# Altium integrated library WCAP-ASNP_rev15a.intlib: 55 symbols (part 2 of 2)
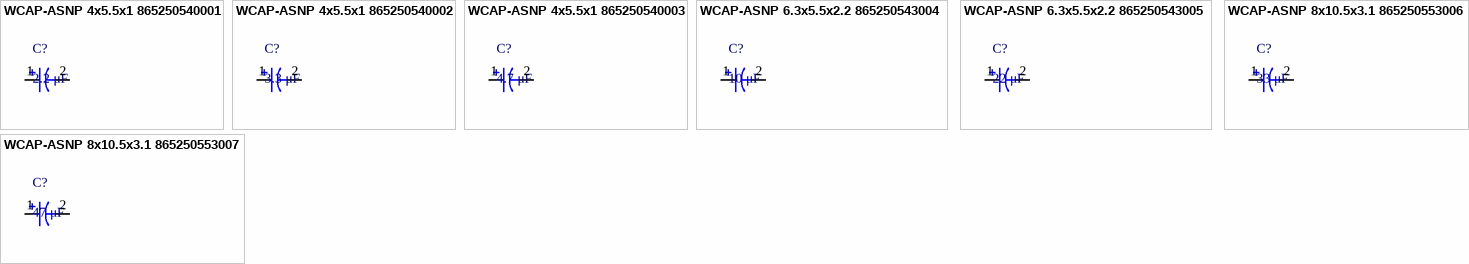
[diagram p6: symbols WCAP-ASNP 4x5.5x1 865250540001 to WCAP-ASNP 8x10.5x3.1 865250553007]

## WCAP-ASNP 4x5.5x1 865250540003
designator C?, comment 4.7 μF
WCAP-ASNP Aluminum Electrolytic Capacitors , 4,7 μF; + / - 20%; 35 V , 4 x 5,5; Manufacturer: Wurth Elektronik; partNo: 865250540003; E-mail: libraries@we-online.com; Characteristics: Aluminum Electrolytic Capacitor;Recommended soldering: Reflow;Operating temperature: –40 °C to +85 °C;Non-polarized product series with +85 °C max. temperature;Load life: 2000 h @ +85 °C; ComponentLink1Description: Manufacturer; ComponentLink1URL: http://www.we-online.com; ComponentLink2Description: Datasheet; ComponentLink2URL: http://katalog.we-online.de/pbs/datasheet/865250540003.pdf; Created by: Karrer Zheng; Created Date: 5/13/2015; Capacitance: 4.7 μF; Application: Applied to signal loop with occasional reverse voltage, coupling signal and filtering in circuit. It can be used for signal processing  on TV, audio circuits, digital TV, digital camera, satellite receiver and etc.
footprint WCAP-ASNP 4x5.5x1
pins: 1, 2

## WCAP-ASNP 6.3x5.5x2.2 865250543004
designator C?, comment 10 μF
WCAP-ASNP Aluminum Electrolytic Capacitors , 10 μF; + / - 20%; 35 V , 6,3 x 5,5; Manufacturer: Wurth Elektronik; partNo: 865250543004; E-mail: libraries@we-online.com; Characteristics: Aluminum Electrolytic Capacitor;Recommended soldering: Reflow;Operating temperature: –40 °C to +85 °C;Non-polarized product series with +85 °C max. temperature;Load life: 2000 h @ +85 °C; ComponentLink1Description: Manufacturer; ComponentLink1URL: http://www.we-online.com; ComponentLink2Description: Datasheet; ComponentLink2URL: http://katalog.we-online.de/pbs/datasheet/865250543004.pdf; Created by: Karrer Zheng; Created Date: 5/13/2015; Capacitance: 10 μF; Application: Applied to signal loop with occasional reverse voltage, coupling signal and filtering in circuit. It can be used for signal processing  on TV, audio circuits, digital TV, digital camera, satellite receiver and etc.
footprint WCAP-ASNP 6.3x5.5x2.2
pins: 1, 2

## WCAP-ASNP 6.3x5.5x2.2 865250543005
designator C?, comment 22 μF
WCAP-ASNP Aluminum Electrolytic Capacitors , 22 μF; + / - 20%; 35 V , 6,3 x 5,5; Manufacturer: Wurth Elektronik; partNo: 865250543005; E-mail: libraries@we-online.com; Characteristics: Aluminum Electrolytic Capacitor;Recommended soldering: Reflow;Operating temperature: –40 °C to +85 °C;Non-polarized product series with +85 °C max. temperature;Load life: 2000 h @ +85 °C; ComponentLink1Description: Manufacturer; ComponentLink1URL: http://www.we-online.com; ComponentLink2Description: Datasheet; ComponentLink2URL: http://katalog.we-online.de/pbs/datasheet/865250543005.pdf; Created by: Karrer Zheng; Created Date: 5/13/2015; Capacitance: 22 μF; Application: Applied to signal loop with occasional reverse voltage, coupling signal and filtering in circuit. It can be used for signal processing  on TV, audio circuits, digital TV, digital camera, satellite receiver and etc.
footprint WCAP-ASNP 6.3x5.5x2.2
pins: 1, 2

## WCAP-ASNP 8x10.5x3.1 865250553006
designator C?, comment 33 μF
WCAP-ASNP Aluminum Electrolytic Capacitors , 33 μF; + / - 20%; 35 V , 8 x 10,5; Manufacturer: Wurth Elektronik; partNo: 865250553006; E-mail: libraries@we-online.com; Characteristics: Aluminum Electrolytic Capacitor;Recommended soldering: Reflow;Operating temperature: –40 °C to +85 °C;Non-polarized product series with +85 °C max. temperature;Load life: 2000 h @ +85 °C; ComponentLink1Description: Manufacturer; ComponentLink1URL: http://www.we-online.com; ComponentLink2Description: Datasheet; ComponentLink2URL: http://katalog.we-online.de/pbs/datasheet/865250553006.pdf; Created by: Karrer Zheng; Created Date: 5/13/2015; Capacitance: 33 μF; Application: Applied to signal loop with occasional reverse voltage, coupling signal and filtering in circuit. It can be used for signal processing  on TV, audio circuits, digital TV, digital camera, satellite receiver and etc.
footprint WCAP-ASNP 8x10.5x3.1
pins: 1, 2

## WCAP-ASNP 8x10.5x3.1 865250553007
designator C?, comment 47 μF
WCAP-ASNP Aluminum Electrolytic Capacitors , 47 μF; + / - 20%; 35 V , 8 x 10,5; Manufacturer: Wurth Elektronik; partNo: 865250553007; E-mail: libraries@we-online.com; Characteristics: Aluminum Electrolytic Capacitor;Recommended soldering: Reflow;Operating temperature: –40 °C to +85 °C;Non-polarized product series with +85 °C max. temperature;Load life: 2000 h @ +85 °C; ComponentLink1Description: Manufacturer; ComponentLink1URL: http://www.we-online.com; ComponentLink2Description: Datasheet; ComponentLink2URL: http://katalog.we-online.de/pbs/datasheet/865250553007.pdf; Created by: Karrer Zheng; Created Date: 5/13/2015; Capacitance: 47 μF; Application: Applied to signal loop with occasional reverse voltage, coupling signal and filtering in circuit. It can be used for signal processing  on TV, audio circuits, digital TV, digital camera, satellite receiver and etc.
footprint WCAP-ASNP 8x10.5x3.1
pins: 1, 2